# EAGLE library part TCM8240MD (library tcm82x0md)
TCM8240MD 1.3 Mega pixel sensor chip mfg TOSHIBA symbol/package by Kyrre Aalerud Note: Chip has pads for socket mounting on underside. Do not route anything under the chip unless you insulate it.
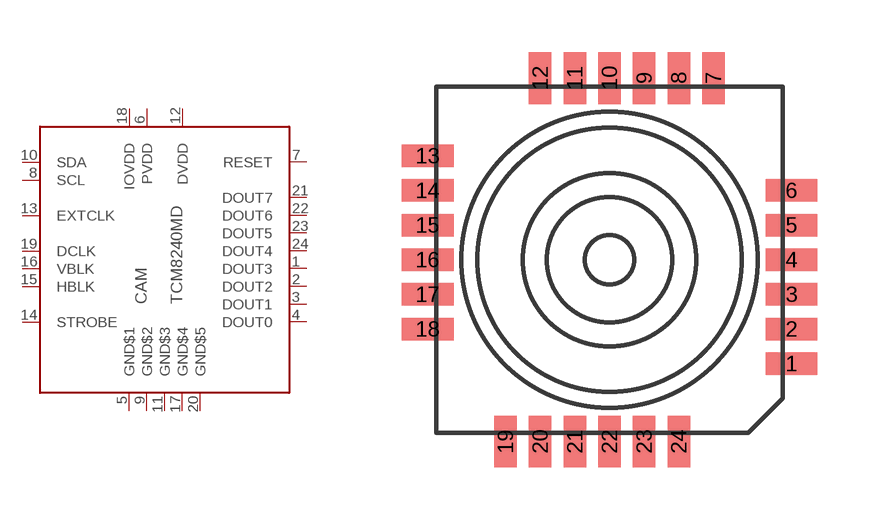
[diagram p1: symbol with the pads of TCM8240MD; footprint TCM8240MD]

Designator prefix CAM

## TCM8240MD  [TCM8240MD]
1  DOUT3  out
2  DOUT2  out
3  DOUT1  out
4  DOUT0  out
5  GND$1  sup
6  PVDD  pwr
7  RESET  in
8  SCL  in
9  GND$2  sup
10  SDA
11  GND$3  sup
12  DVDD  pwr
13  EXTCLK  in
14  STROBE  out
15  HBLK  out
16  VBLK  out
17  GND$4  sup
18  IOVDD  pwr
19  DCLK  out
20  GND$5  sup
21  DOUT7  out
22  DOUT6  out
23  DOUT5  out
24  DOUT4  out

## Footprint TCM8240MD (pad centres in mm)
smd 1.5 x 0.65: 1 5.25,-3; 2 5.25,-2; 3 5.25,-1; 4 5.25,0; 5 5.25,1; 6 5.25,2; 13 -5.25,3; 14 -5.25,2; 15 -5.25,1; 16 -5.25,0; 17 -5.25,-1; 18 -5.25,-2
smd 0.65 x 1.5: 7 3,5.25; 8 2,5.25; 9 1,5.25; 10 0,5.25; 11 -1,5.25; 12 -2,5.25; 19 -3,-5.25; 20 -2,-5.25; 21 -1,-5.25; 22 0,-5.25; 23 1,-5.25; 24 2,-5.25